# Altium schematic symbol library 4-794618-2.SchLib: 1 symbol
Pins are listed as number, name and electrical type; pins without a type are passive.

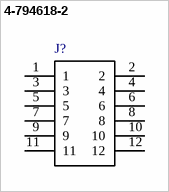
[diagram p0: symbol 4-794618-2]

## 4-794618-2
designator J?  (value not drawn)
Wire-To-Board Connector, Micro Mate-N-Lok Series, Through Hole, Header, 12, 3 Mm; MF: TE Connectivity; TE_purchase_URL: https://www.te.com/usa-en/product-4-794618-2.html?te_bu=Cor&te_type=disp&te_campaign=seda_glo_cor-seda-global-disp-prtnr-fy19-seda-model-bom-cta_sma-317_1&elqCampaignId=32493; Availability: Unavailable; Package: None; SnapEDA_Link: https://www.snapeda.com/parts/4-794618-2/TE%20Connectivity%20AMP%20Connectors/view-part/?ref=snap; Price: None; EU_RoHS_Compliance: Compliant; MP: 4-794618-2; Value: *
footprint *TE_4-794618-2
pins: 1, 2, 3, 4, 5, 6, 7, 8, 9, 10, 11, 12